# Altium footprint library WePcbLib.PcbLib: 177 footprints (part 11 of 12)
Each footprint in its own frame and in the unit in brackets; x right, y up, seen from the top. Pads: shape width x height; smd on the part's side, far side on the other; paste and mask are expansions set on the pad; w line width, h text height; cw(c..) or ccw(c..) is an arc to the next point about the centre after c.
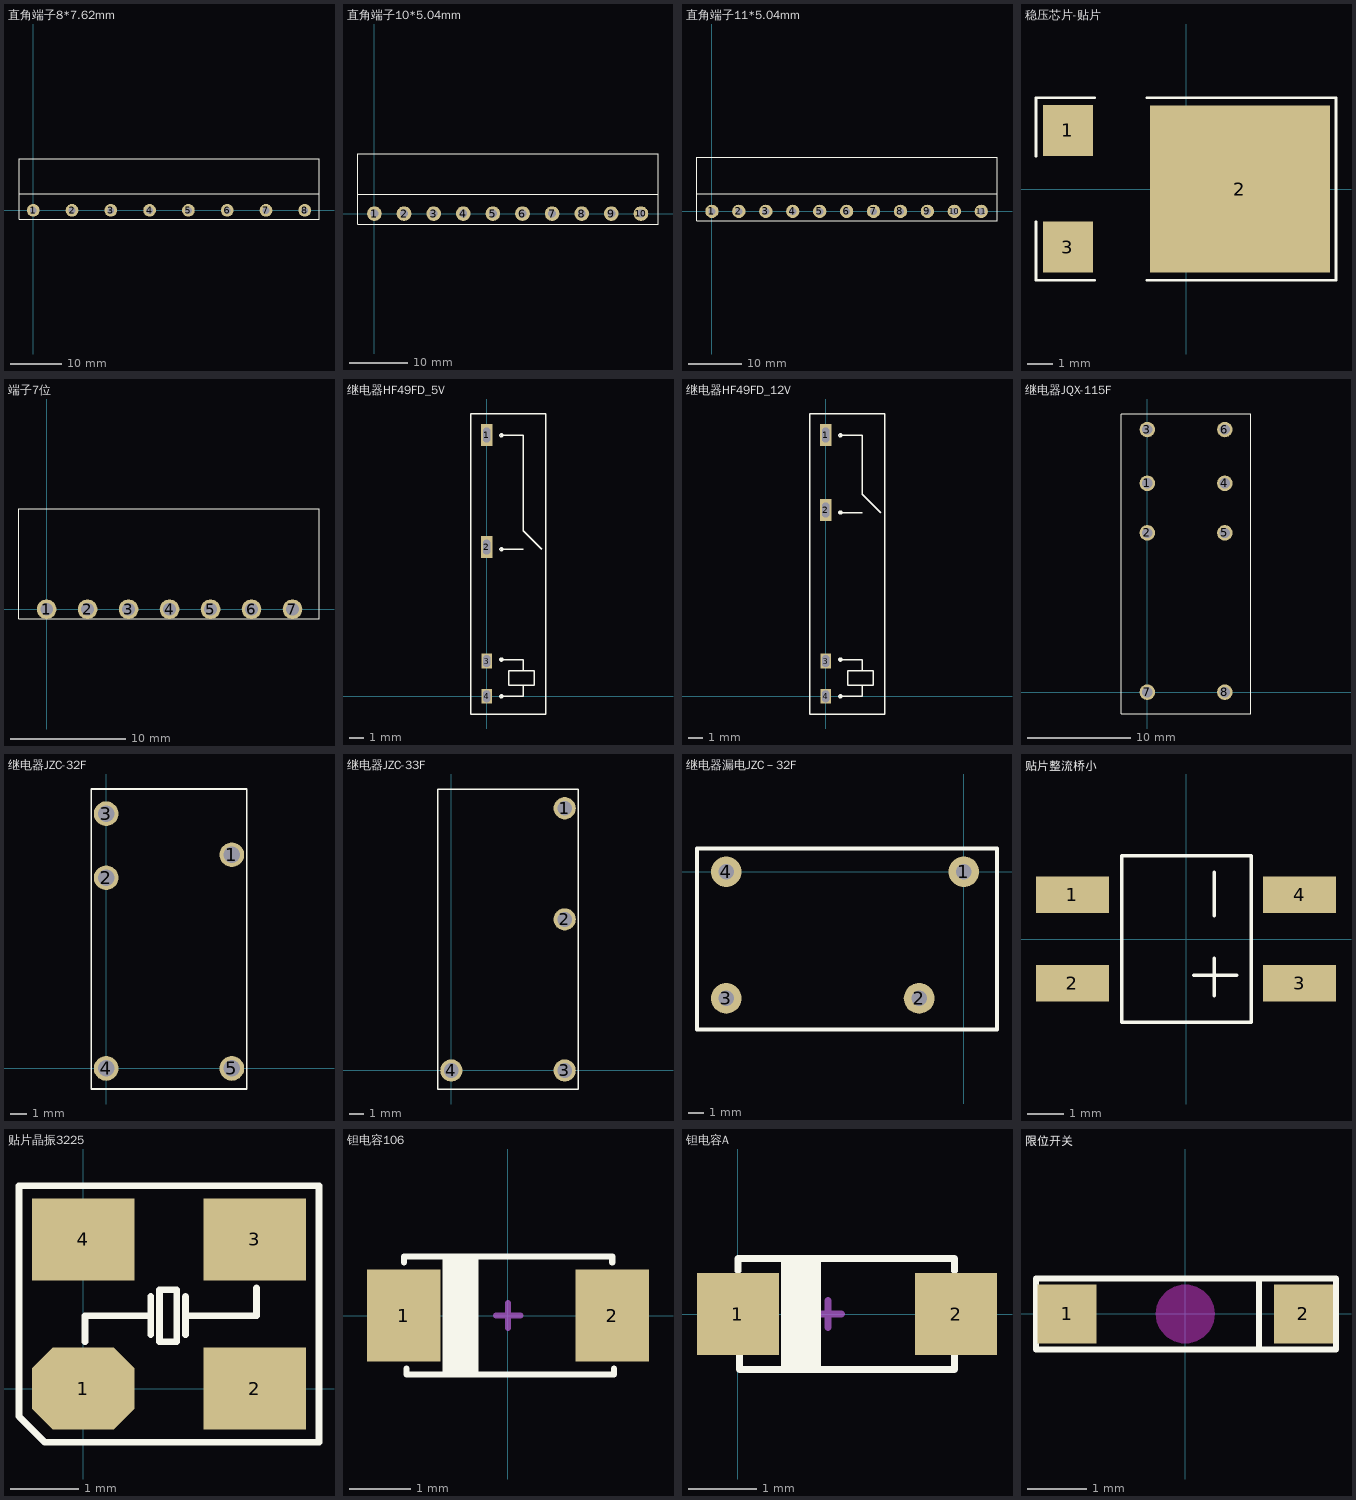
[diagram p10: the footprints below, top view; thin cyan lines are the x and y axes]

## 直角端子8*7.62mm [mm]
pads (8):
  round 2.5 hole 1.35: 1(0,0) 2(7.62,0) 3(15.24,0) 4(22.86,0) 5(30.48,0) 6(38.1,0) 7(45.72,0) 8(53.34,0)
Top Overlay:
  lines w0.1: -2.794,3.302 56.134,3.302
  lines w0.2: -2.794,-1.778 56.134,-1.778 56.134,10.16 -2.794,10.16 -2.794,-1.778

## 直角端子10*5.04mm [mm]
pads (10):
  round 2.5 hole 1.35: 1(0,0) 2(5.04,0) 3(10.08,0) 4(15.12,0) 5(20.16,0) 6(25.2,0) 7(30.24,0) 8(35.28,0) 9(40.32,0) 10(45.36,0)
Top Overlay:
  lines w0.2: -2.794,3.302 48.26,3.302 ; -2.794,-1.778 48.26,-1.778 48.26,10.16 -2.794,10.16 -2.794,-1.778

## 直角端子11*5.04mm [mm]
pads (11):
  round 2.5 hole 1.35: 1(0,0) 2(5.04,0) 3(10.08,0) 4(15.12,0) 5(20.16,0) 6(25.2,0) 7(30.24,0) 8(35.28,0) 9(40.32,0) 10(45.36,0) 11(50.4,0)
Top Overlay:
  lines w0.2: -2.794,3.302 53.34,3.302 ; -2.794,-1.778 53.34,-1.778 53.34,10.16 -2.794,10.16 -2.794,-1.778

## 稳压芯片-贴片 [mm] "D-PAK, 3-Pads, Body 6.2x6.7mm (max), IPC Medium Density"
height 2.38
pads (3):
  rect 1.95x2 smd: 1(-4.6,2.28) 3(-4.597,-2.261)
  rect 7x6.5 smd: 2(2.1,0)
Top Overlay:
  lines w0.1: -5.842,-1.27 -5.842,-3.556 -3.556,-3.556 ; -5.842,1.27 -5.842,3.556 -3.556,3.556 ; -1.524,-3.556 5.842,-3.556 5.842,3.556 -1.524,3.556

## 端子7位 [mm]
height 4.6
pads (7):
  round 1.7 hole 1.1: 1(0,0) 2(3.552,0) 3(7.104,0) 4(10.655,0) 5(14.207,0) 6(17.759,0) 7(21.311,0)
Top Overlay:
  lines w0.1: -2.392,-0.808 -2.392,8.692 23.608,8.692 23.608,-0.808 -2.392,-0.808

## 继电器HF49FD_5V [mm]
pads (4):
  rect 0.8x1.5 hole 0.5 slot 1 at 90 deg: 1(0,17.77) 2(0,10.15)
  rect 0.7x1 hole 0.5 slot 0.8 at 90 deg: 3(0,2.4) 4(0,0)
Top Overlay:
  circle w0.102: c1,17.75 r0.1
  circle w0.102: c1,10 r0.1
  circle w0.102: c1,2.5 r0.1
  circle w0.102: c1,0 r0.1
  lines w0.102: 1,0 2.5,0 2.5,0.75 ; 1,2.5 2.5,2.5 2.5,1.75 ; 1,10 2.5,10 ; 1,17.75 2.5,17.75 2.5,11.25 3.75,10 ; -1.1,-1.2 -1.1,19.2 4,19.2 4,-1.2 -1.1,-1.2 ; 1.5,0.75 3.25,0.75 3.25,1.75 1.5,1.75 1.5,0.75

## 继电器HF49FD_12V [mm]
pads (4):
  rect 0.8x1.5 hole 0.5 slot 1 at 90 deg: 1(0,17.77) 2(0,12.67)
  rect 0.7x1 hole 0.5 slot 0.8 at 90 deg: 3(0,2.4) 4(0,0)
Top Overlay:
  circle w0.102: c1,12.5 r0.1
  circle w0.102: c1,17.75 r0.1
  circle w0.102: c1,2.5 r0.1
  circle w0.102: c1,0 r0.1
  lines w0.102: 1,0 2.5,0 2.5,0.75 ; 1,2.5 2.5,2.5 2.5,1.75 ; 1,12.5 2.5,12.5 ; 1,17.75 2.5,17.75 2.5,13.75 3.75,12.5 ; -1.1,-1.2 -1.1,19.2 4,19.2 4,-1.2 -1.1,-1.2 ; 1.5,0.75 3.25,0.75 3.25,1.75 1.5,1.75 1.5,0.75

## 继电器JQX-115F [mm]
pads (8):
  round 1.5 hole 1: 1(0,20.2) 2(0,15.4) 3(0,25.4) 4(7.5,20.2) 5(7.5,15.4) 6(7.5,25.4) 7(0,0) 8(7.5,0)
Top Overlay:
  lines w0.1: -2.515,-2.083 -2.515,26.899 ; -2.5,-2.1 10,-2.1 ; -2.5,26.9 10,26.9 ; 10.008,-2.108 10.008,26.899

## 继电器JZC-32F [mm]
pads (5):
  round 1.5 hole 1: 1(7.65,13) 2(0,11.6) 3(0,15.5) 4(0,0) 5(7.65,0)
Top Overlay:
  lines w0.1: -0.9,16.967 -0.9,-1.25 8.55,-1.25 8.55,16.993 ; -0.9,17 8.55,17

## 继电器JZC-33F [mm]
pads (4):
  round 1.5 hole 1: 1(7.65,17.7) 2(7.65,10.2) 3(7.65,0) 4(0,0)
Top Overlay:
  lines w0.1: -0.9,-1.25 8.55,-1.25 8.55,19 -0.9,19 -0.9,-1.25

## 继电器漏电JZC－32F [mm]
pads (4):
  round 2 hole 1.016: 1(0,0) 2(-2.921,-8.255) 3(-15.494,-8.255) 4(-15.494,0)
Top Overlay:
  lines w0.254: -17.399,-10.287 -17.399,-9.017 -17.399,1.524 2.159,1.524 2.159,-10.287 -17.399,-10.287

## 贴片整流桥小 [mm]
height 4.6
pads (4):
  rect 2x1 smd: 1(-3.124,1.219) 2(-3.124,-1.219) 3(3.099,-1.219) 4(3.099,1.219)
Top Overlay:
  lines w0.1: 0.203,-0.991 1.372,-0.991 ; 0.762,-1.549 0.762,-0.533 ; 0.762,0.635 0.762,1.829 ; -1.778,-2.286 -1.778,2.286 1.778,2.286 1.778,-2.286 -1.778,-2.286

## 贴片晶振3225 [mm]
height 4.6
pads (4):
  oct 1.5x1.2 smd: 1(0,0)
  rect 1.5x1.2 smd: 2(2.515,0) 3(2.515,2.184) 4(0,2.184)
Top Overlay:
  lines w0.1: 0.025,0.686 0.025,1.067 0.991,1.067 ; 0.991,0.787 0.991,1.346 ; 1.118,0.889 1.118,1.448 1.372,1.448 1.372,0.686 1.118,0.686 1.118,1.27 ; 1.499,0.787 1.499,1.346 ; 1.499,1.067 2.54,1.067 2.54,1.473 ; -0.94,-0.406 -0.94,-0.203 -0.94,2.972 3.454,2.972 3.454,-0.787 -0.559,-0.787 -0.94,-0.406

## 钽电容106 [mm]
height 4.6
pads (2):
  rect 1.2x1.5 smd: 1(-1.7,0) 2(1.7,0)
Top Overlay:
  rectangle: -1.067,-0.965 -0.483,1.016
  lines w0.1: -1.7,0.864 -1.7,0.965 1.704,0.965 1.704,0.864 ; -1.659,-0.862 -1.659,-0.965 1.729,-0.965 1.729,-0.862
Mechanical 1:
  lines w0.1: -0.198,0 0.202,0 ; 0.002,-0.2 0.002,0.2

## 钽电容A [mm] "3.2*1.6mm"
pads (2):
  rect 1.2x1.2 smd: 1(0,0) 2(3.2,0)
Top Overlay:
  rectangle: 0.633,-0.864 1.217,0.864
  lines w0.1: 0,0.635 0,0.813 3.175,0.813 3.175,0.635 ; 0.025,-0.813 0.025,-0.61 ; 0.041,-0.813 3.175,-0.813 3.175,-0.61
Mechanical 1:
  lines w0.1: 1.121,0 1.521,0 ; 1.321,-0.2 1.321,0.2

## 限位开关 [mm]
pads (3):
  rect 1x1 smd: 1(-2,0) 2(2,0)
  round 1 on Keep-Out: ""(0,0)
Top Overlay:
  lines w0.1: 1.25,-0.6 1.25,0.6 ; -2.525,-0.6 2.55,-0.6 2.55,0.6 -2.525,0.6 -2.525,-0.6